# EAGLE library part AE55114H-1250 (library saw-filters-narrowband)
AE55114H-1250 Параметр Ед. изм. Мин. значение Тип. значение Макс. значение Центральная частота МГц 1248.5 1250 1251.5 Минимальное вносимое затухание дБ - 3.2 4 Полоса среза по уровню -2 дБ МГц 48 50.5 52 Полоса среза по уровню -40 дБ МГц - 186.5 - Неравномерность АЧХ дБ - 1.5 2 Групповое время задержки нс - - - Гарантированное затухание дБ - 45 - Температурный диапазон °C -55 22 +85 Материал подложки - - Ниобат лития 64 -
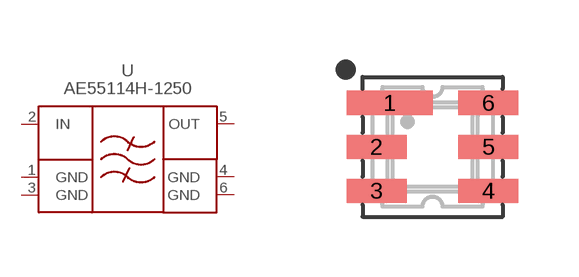
[diagram p49: symbol with the pads of DCC6; footprint DCC6]

Designator prefix -

## AE55114H-1250  [DCC6]
1  GND  pwr
2  IN  in
3  GND  pwr
4  GND  pwr
5  OUT  out
6  GND  pwr

## Footprint DCC6 (pad centres in mm)
smd 2.15 x 0.6: 1 -1.075,1.1
smd 1.5 x 0.6: 2 -1.4,0; 3 -1.4,-1.1; 4 1.4,-1.1; 5 1.4,0; 6 1.4,1.1